# Altium schematic symbol library SCH - POWER - LINEAR VREG - TI TPS79801-Q1DGN.SchLib: 1 symbol
Pins are listed as number, name and electrical type; pins without a type are passive.

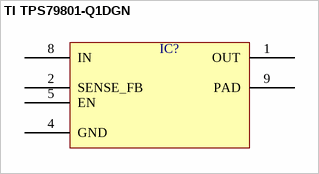
[diagram p0: symbol TI TPS79801-Q1DGN]

## TI TPS79801-Q1DGN
designator IC?  (value not drawn)
pins: 1 OUT, 2 SENSE_FB, 4 GND, 5 EN, 8 IN, 9 PAD